# Altium schematic symbol library QA.SchLib: 1 symbol
Pins are listed as number, name and electrical type; pins without a type are passive.

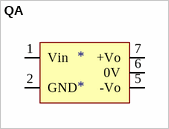
[diagram p0: symbol QA]

## QA
designator *
pins: 1 Vin, 2 GND, 5 -Vo, 6 0V, 7 +Vo